# Altium footprint library neutrik.PcbLib: 12 footprints
Each footprint in its own frame and in the unit in brackets; x right, y up, seen from the top. Pads: shape width x height; smd on the part's side, far side on the other; paste and mask are expansions set on the pad; w line width, h text height; cw(c..) or ccw(c..) is an arc to the next point about the centre after c.
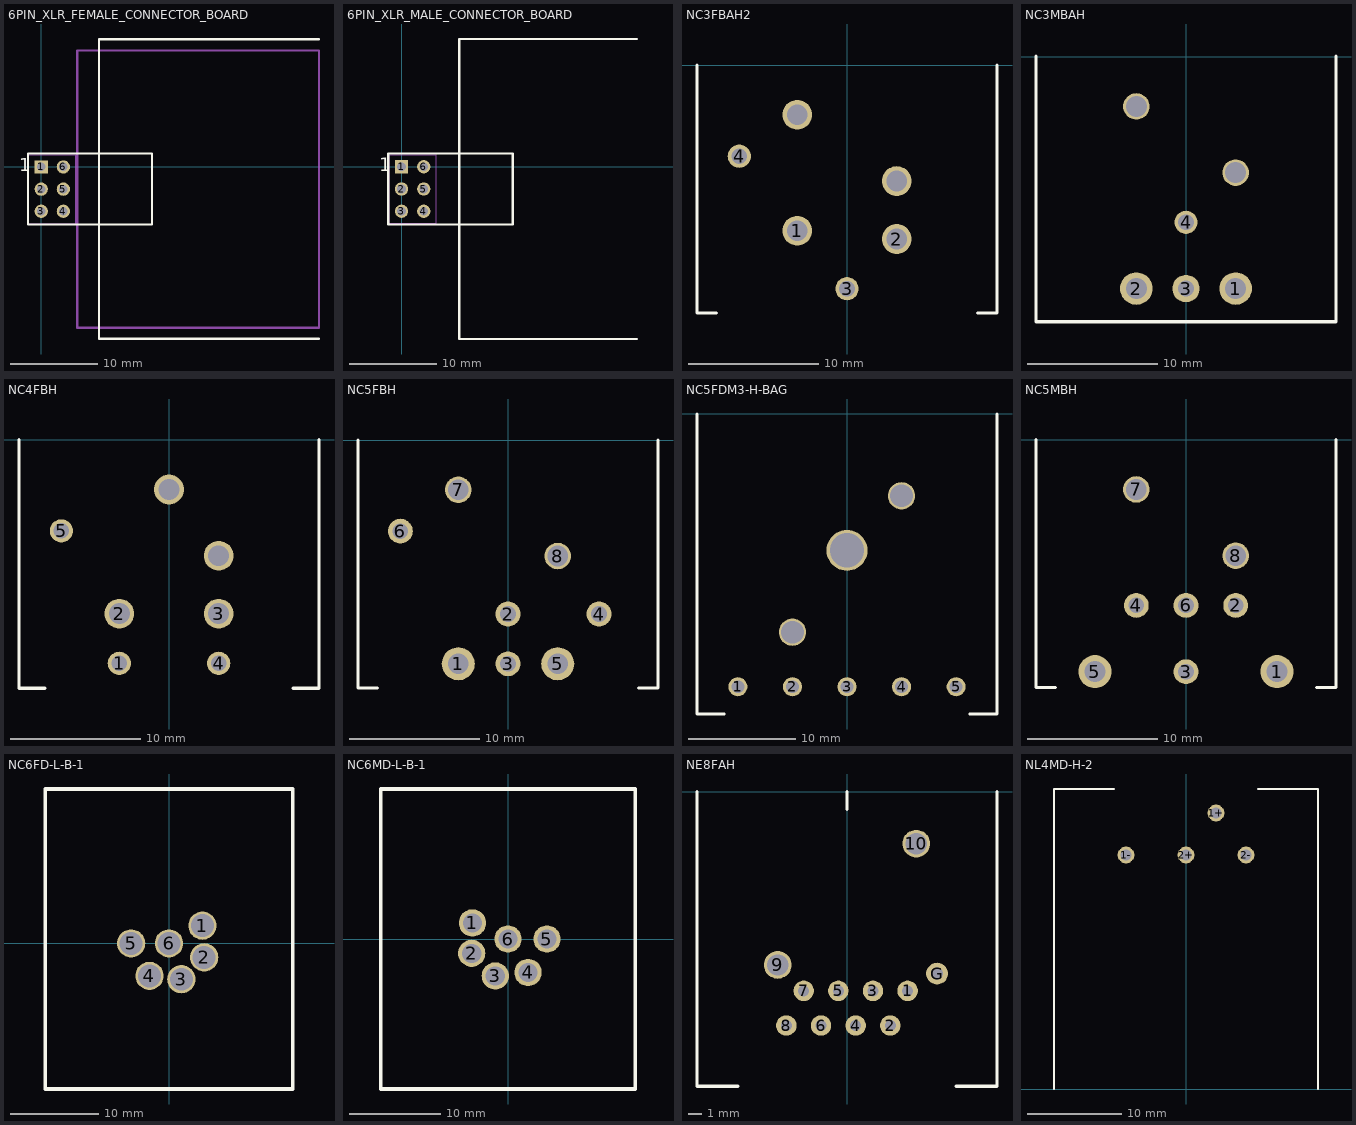
[diagram p0: the footprints below, top view; thin cyan lines are the x and y axes]

## 6PIN_XLR_FEMALE_CONNECTOR_BOARD [mil]
pads (6):
  rect 60x60 hole 39: 1(0,0)
  round 60 hole 39: 2(0,-100) 3(0,-200) 4(100,-200) 5(100,-100) 6(100,0)
Top Overlay:
  lines w10: 1252,-774 260,-774 260,-260 260,60 260,575 1252,575 ; -60,-260 -60,60 500,60 500,-260 -60,-260
  text "1" at -100,-20 h60
Mechanical 1:
  lines w10: 260,-725 1252,-725 1252,525 260,525
Mechanical 13:
  lines w5: -55,-255 -55,55 155,55 155,-255 -55,-255 ; -12.5,-212.5 12.5,-212.5 12.5,-187.5 -12.5,-187.5 -12.5,-212.5 ; -12.5,-112.5 12.5,-112.5 12.5,-87.5 -12.5,-87.5 -12.5,-112.5 ; -12.5,-12.5 12.5,-12.5 12.5,12.5 -12.5,12.5 -12.5,-12.5 ; 87.5,-212.5 112.5,-212.5 112.5,-187.5 87.5,-187.5 87.5,-212.5 ; 87.5,-112.5 112.5,-112.5 112.5,-87.5 87.5,-87.5 87.5,-112.5 ; 87.5,-12.5 87.5,12.5 112.5,12.5 112.5,-12.5 87.5,-12.5
  lines w10: 163,-725 1252,-725 1252,525 163,525 163,-260 163,-725
3D body: height 1392.28, standoff 0, extent 164,-725 1475.02,525
3D body: height 221, standoff -588, extent -12.5,-249.99 490,50.01

## 6PIN_XLR_MALE_CONNECTOR_BOARD [mil]
pads (6):
  rect 60x60 hole 39: 1(0,0)
  round 60 hole 39: 2(0,-100) 3(0,-200) 4(100,-200) 5(100,-100) 6(100,0)
Top Overlay:
  lines w10: 1058,-775 260,-775 260,-745 260,-260 260,60 260,575 1058,575 ; -60,-260 -60,60 500,60 500,-260 -60,-260
  text "1" at -100,-20 h60
Mechanical 13:
  lines w5: -55,-255 -55,55 155,55 155,-255 -55,-255 ; -12.5,-212.5 12.5,-212.5 12.5,-187.5 -12.5,-187.5 -12.5,-212.5 ; -12.5,-112.5 12.5,-112.5 12.5,-87.5 -12.5,-87.5 -12.5,-112.5 ; -12.5,-12.5 12.5,-12.5 12.5,12.5 -12.5,12.5 -12.5,-12.5 ; 87.5,-212.5 112.5,-212.5 112.5,-187.5 87.5,-187.5 87.5,-212.5 ; 87.5,-112.5 112.5,-112.5 112.5,-87.5 87.5,-87.5 87.5,-112.5 ; 87.5,-12.5 87.5,12.5 112.5,12.5 112.5,-12.5 87.5,-12.5
3D body: height 1350.24, standoff 0, extent 132,-725 1167.43,525
3D body: height 221, standoff -588, extent -12.5,-249.99 490,50.01

## NC3FBAH2 [mil] "XLR 3 FEMALE"
pads (6):
  round 90 hole 63: 1(-150,-500) 2(150,-525) ""(-150,-150) ""(150,-350)
  round 70 hole 47: 3(0,-675) 4(-325,-275)
Top Overlay:
  lines w10: -452.76,0 -452.76,-748.03 -393.7,-748.03 ; 393.7,-748.03 452.76,-748.03 452.76,0

## NC3MBAH [mm] "XLR 3 MALE"
pads (6):
  round 2.5 hole 1.6: 1(3.81,-17.78) 2(-3.81,-17.78)
  round 2.1 hole 1.2: 3(0,-17.78)
  round 1.778 hole 1.194: 4(0,-12.7)
  round 2.032 hole 1.6: ""(-3.81,-3.81) ""(3.81,-8.89)
Top Overlay:
  lines w0.254: -11.506,0.032 -11.506,-20.32 11.506,-20.32 11.506,0.032
3D body: height 23.47, standoff 1.52, extent -10.955,-2.86 10.955,2.54
3D body: height 20, standoff 0, extent -6.5,-20.248 6.5,0.052

## NC4FBH [mil] "XLR 4 FEMALE"
pads (7):
  round 70 hole 47: 1(-150,-675) 4(150,-675) 5(-325,-275)
  round 90 hole 63: 2(-150,-525) 3(150,-525) ""(0,-150) ""(150,-350)
Top Overlay:
  lines w10: -453,0 -453,-750 -375,-750 ; 375,-750 453,-750 453,0

## NC5FBH [mm] "XLR Female"
height 25
pads (8):
  round 2.54 hole 1.6: 1(-3.81,-17.15) 5(3.81,-17.15)
  round 1.905 hole 1.2: 2(0,-13.335) 3(0,-17.15) 4(6.98,-13.335)
  round 1.9 hole 1.2: 6(-8.25,-6.98)
  round 2.032 hole 1.6: 7(-3.81,-3.81) 8(3.81,-8.89)
Top Overlay:
  lines w0.254: -11.5,0 -11.5,-19 -10,-19 ; 10,-19 11.5,-19 11.5,0
3D body: height 29.27, standoff -3.3, extent -12.485,-19.6 12.5,6.8

## NC5FDM3-H-BAG [mil] "XLR 5 FEMALE (HIGH CURRENT)"
pads (8):
  round 70 hole 47: 1(-400,-1000) 2(-200,-1000) 3(0,-1000) 4(200,-1000) 5(400,-1000)
  round 100 hole 83: ""(-200,-800) ""(200,-300)
  round 150 hole 126: ""(0,-500)
Top Overlay:
  lines w10: -550,0 -550,-1100 -450,-1100 ; 450,-1100 550,-1100 550,0

## NC5MBH [mil] "XLR 5 Female"
height 984.25
pads (8):
  round 100 hole 63: 1(274.8,-700) 5(-274.8,-700)
  round 75 hole 47.24: 2(150,-500) 3(0,-700) 4(-150,-500) 6(0,-500)
  round 80 hole 63: 7(-150,-150) 8(150,-350)
Top Overlay:
  lines w10: -452.76,0 -452.76,-748.03 -393.7,-748.03 ; 393.7,-748.03 452.76,-748.03 452.76,0
3D body: height 991.99, standoff -129.92, extent -491.62,-750 492.13,104.33

## NC6FD-L-B-1 [mm]
pads (6):
  round 3.2 hole 2.6: 1(3.79,2.01) 2(3.99,-1.58) 3(1.4,-4.06) 4(-2.21,-3.68) 5(-4.29,0) 6(0,0)
Top Overlay:
  lines w0.4: -14,-16.5 14,-16.5 14,17.5 -14,17.5 -14,-16.5
3D body: height 29.32, standoff -3.98, extent -13,-15.5 13,16.568

## NC6MD-L-B-1 [mm]
pads (6):
  round 3 hole 2.1: 1(-3.91,1.77) 2(-3.99,-1.58) 3(-1.4,-4.06) 4(2.21,-3.68) 5(4.29,0) 6(0,0)
Top Overlay:
  lines w0.4: -14,-16.5 -14,16.5 14,16.5 14,-16.5 -14,-16.5
3D body: height 21.4, standoff -4.9, extent -13,-15.5 13,15.5

## NE8FAH [mm] "RJ45"
pads (11):
  round 1.5 hole 0.8: 1(4.445,-14.605) 2(3.175,-17.145) 3(1.905,-14.605) 4(0.635,-17.145) 5(-0.635,-14.605) 6(-1.905,-17.145) 7(-3.175,-14.605) 8(-4.445,-17.145)
  round 2.032 hole 1.55: 9(-5.08,-12.7) 10(5.08,-3.81)
  round 1.6 hole 0.9: G(6.604,-13.335)
Top Overlay:
  lines w0.254: -11,0 -11,-21.6 -8,-21.6 ; 0,-1.27 0,0 ; 8,-21.6 11,-21.6 11,0
3D body: height 30, standoff 24, extent -2.54,6.35 2.54,6.985
3D body: height 25, standoff 0, extent -12.497,0 12.497,2.692
3D body: height 25, standoff 0, extent -10.998,-21.615 10.998,0

## NL4MD-H-2 [mil] "speakON 4"
pads (4):
  round 70 hole 47: 1+(125,1150) 1-(-250,975) 2+(0,975) 2-(250,975)
Top Overlay:
  lines w10: -550,0 -550,1250 -300,1250 ; 300,1250 550,1250 550,0